# Altium schematic symbol library LED0603.Schlib: 1 symbol
Pins are listed as number, name and electrical type; pins without a type are passive.

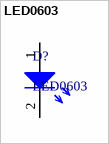
[diagram p0: symbol LED0603]

## LED0603
designator D?
Generic 0603 LED. Use ChipLED from Osram for generic ones.
footprint LED0603 (0603 LED footprint, thick line on the cathode)
pins: 1, 2